# EAGLE library part 91601-308GLF (library CONNECTORs)
8 Position Receptacle, Bottom or Top Entry Connector 0.100" (2.54mm) Surface Mount Gold
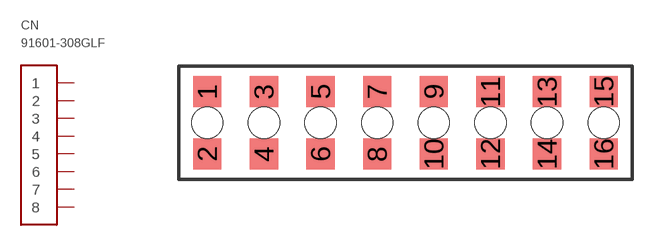
[diagram p66: symbol with the pads of 91601-308GLF; footprint 91601-308GLF]

Designator prefix CN

## 91601-308GLF (DIGIKEY: 609-91601-308GLFCT-ND; HEIGHT: 7; PRICE_PER: 1.06; VALUE: 8 PIN BOTTOM ENTRY)  [91601-308GLF]
1  1
2  1
3  2
4  2
5  3
6  3
7  4
8  4
9  5
10  5
11  6
12  6
13  7
14  7
15  8
16  8

## Footprint 91601-308GLF (pad centres in mm)
smd 1.27 x 1.4: 1 -8.89,1.4; 2 -8.89,-1.4; 3 -6.35,1.4; 4 -6.35,-1.4; 5 -3.81,1.4; 6 -3.81,-1.4; 7 -1.27,1.4; 8 -1.27,-1.4; 9 1.27,1.4; 10 1.27,-1.4; 11 3.81,1.4; 12 3.81,-1.4; 13 6.35,1.4; 14 6.35,-1.4; 15 8.89,1.4; 16 8.89,-1.4
hole 1.4 at -8.89,0
hole 1.4 at -6.35,0
hole 1.4 at -3.81,0
hole 1.4 at -1.27,0
hole 1.4 at 1.27,0
hole 1.4 at 3.81,0
hole 1.4 at 6.35,0
hole 1.4 at 8.89,0